# EAGLE library part QMC5883 (library LARS_409_SENSORS)
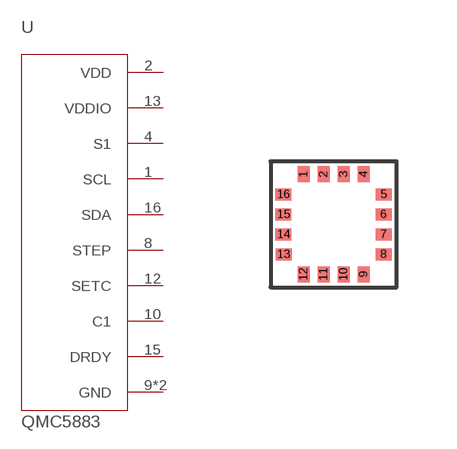
[diagram p11: symbol with the pads of QMC5883; footprint QMC5883]

Designator prefix -

## QMC5883  [QMC5883]
1  SCL  in
2  VDD  pwr
4  S1  out
8  STEP  pas
9  GND  pwr
10  C1  out
11  GND  pwr
12  SETC  pas
13  VDDIO  pwr
15  DRDY  in
16  SDA  in

## Footprint QMC5883 (pad centres in mm)
smd 0.3 x 0.4: 1 -0.75,1.25; 2 -0.25,1.25; 3 0.25,1.25; 4 0.75,1.25; 9 0.75,-1.25; 10 0.25,-1.25; 11 -0.25,-1.25; 12 -0.75,-1.25
smd 0.4 x 0.3: 5 1.25,0.75; 6 1.25,0.25; 7 1.25,-0.25; 8 1.25,-0.75; 13 -1.25,-0.75; 14 -1.25,-0.25; 15 -1.25,0.25; 16 -1.25,0.75